# EAGLE library part MX25R6435FZAIH0 (library circuit_tree)
IC
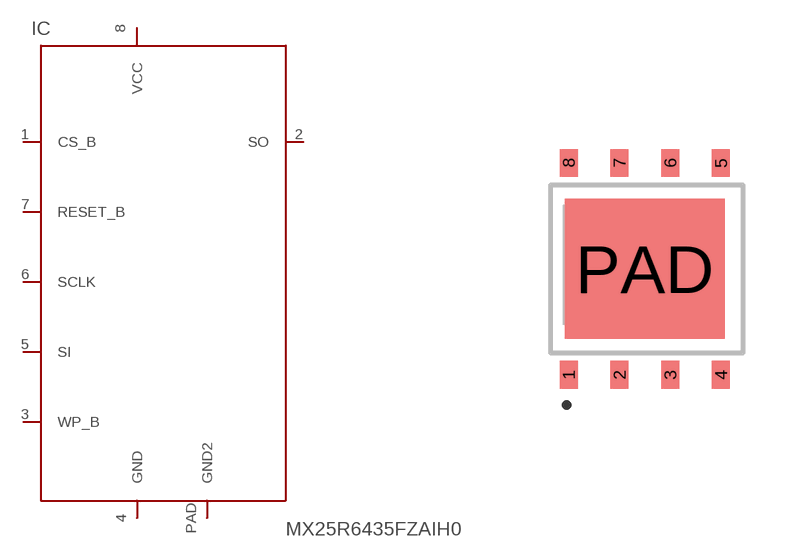
[diagram p7: symbol with the pads of WSON-8-PAD; footprint WSON-8-PAD]

Designator prefix IC

## MX25R6435FZAIH0  [WSON-8-PAD]
1  CS_B  pas
2  SO  pas
3  WP_B  pas
4  GND  pas
5  SI  pas
6  SCLK  pas
7  RESET_B  pas
8  VCC  pas
PAD  GND2  pas

## Footprint WSON-8-PAD (pad centres in mm)
smd 0.45 x 0.7: 1 -0.75,-0.95; 2 0.52,-0.95; 3 1.79,-0.95; 4 3.06,-0.95; 5 3.06,4.35; 6 1.79,4.35; 7 0.52,4.35; 8 -0.75,4.35
smd 4 x 3.5: PAD 1.15,1.7